# Altium schematic symbol library NXP Semiconductors Sensors.SchLib: 94 symbols (part 4 of 4)
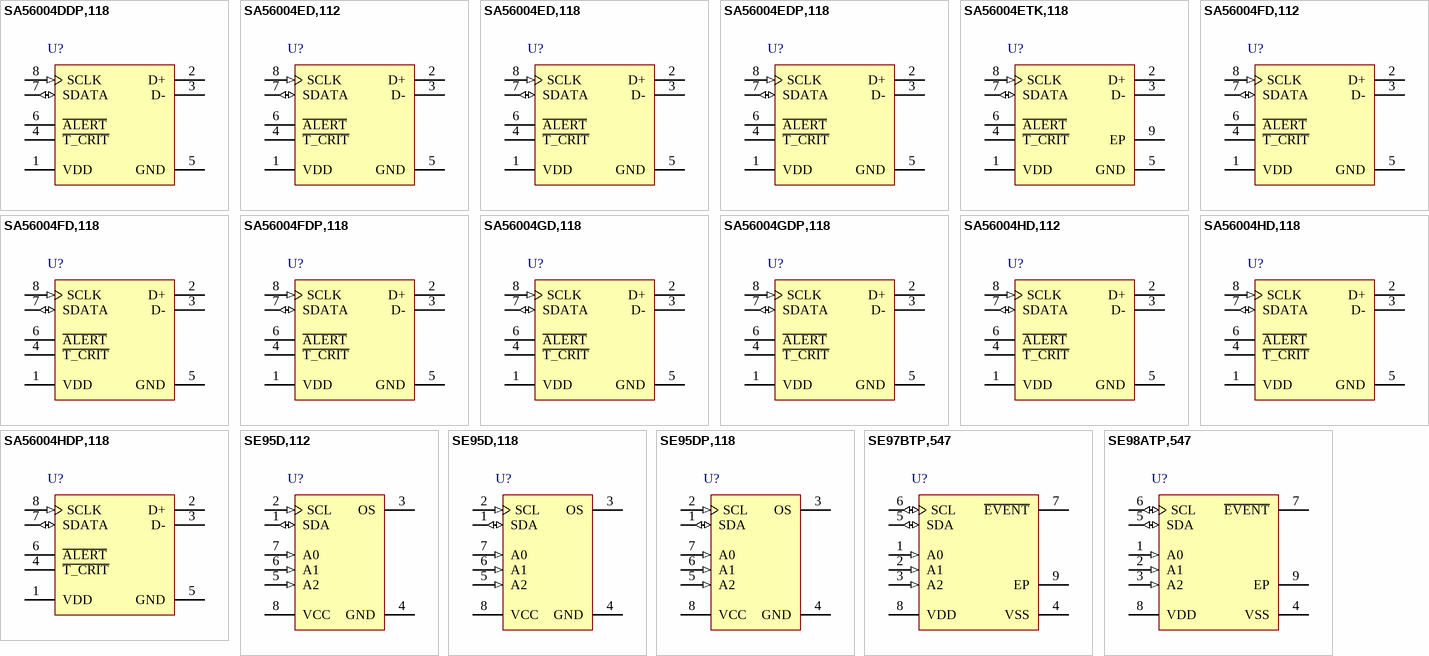
[diagram p5: symbols SA56004DDP,118 to SE98ATP,547]

## SA56004HD,112
designator U?
SMBus-Compatible, Remote / Local Digital Temperature Sensor with Overtemperature Alarms, 3.0 to 5.5 V Supply, -40 to 125 degC, 8-Pin SOT96-1, RoHS, Tube, Bulk; Manufacturer: NXP Semiconductors; PartNumber: SA56004HD,112; Accuracy on-chip (degC): 2@60 to 100 / 3@-40 to 125; Accuracy remote (degC): 1@60 to 100 / 3@-40 to 125; Assignable addresses: 1; SMBus clock (kHz): 400; Standby current (uA): 10; Code_IEC: 76000; DatasheetVersion: Rev. 7; PackageVersion: 03-02-18, 02/2003; PackageReference: SOT96-1; PackageDescription: 8-Pin Plastic Small Outline Package, Body 4.9 x 3.9 mm, Pitch 1.27 mm; Supplier 1: Digi-Key; Supplier Part Number 1: 568-3343-5-ND; Supplier 2: Newark; Supplier Part Number 2: 70R8715; Supplier 3: Mouser; Supplier Part Number 3: 771-SA56004HD112; Operating Voltage (VDC): 3.0 to 5.5; Packing: Tube, Bulk; Mounting Technology: Surface Mount; Code_JEDEC: MS-012; ComponentLink1Description: Manufacturer URL; ComponentLink1URL: http://www.nxp.com/; ComponentLink2Description: Datasheet; ComponentLink2URL: http://www.nxp.com/documents/data_sheet/SA56004X.pdf; ComponentLink3Description: Package Specification; ComponentLink3URL: http://www.nxp.com/documents/outline_drawing/sot096-1_po.pdf
footprint NXP-SOT96-1_N (SOIC, 8-Leads, Body 5x4mm, Pitch 1.27mm, IPC Medium Density)
footprint NXP-SOT96-1_L (SOIC, 8-Leads, Body 5x4mm, Pitch 1.27mm, IPC High Density)
footprint NXP-SOT96-1_M (SOIC, 8-Leads, Body 5x4mm, Pitch 1.27mm, IPC Low Density)
pins: 1 VDD (power) "Positive supply voltage. DC voltage from 3.0 V to 5.5 V.", 2 D+ "Diode current source (anode).", 3 D- "Diode sink current (cathode).", 4 ~{T_CRIT} (oc) "T\_\C\R\I\T\ alarm is open-drain, active LOW output which requires an external pull-up resistor. It functions as a system interrupt or power shutdown.", 5 GND (power) "Power supply ground.", 6 ~{ALERT} (oc) "A\L\E\R\T\ alarm is an open-drain, active LOW output which requires an external pull-up resistor. It functions as an interrupt indicating that the temperature of the on-chip or remote diode is above or below programmed (See Datasheet)", 7 SDATA (io) "SMBus/I2C-bus bidirectional data line. This is an open-drain output which requires an external pull-up resistor.", 8 SCLK (in) "SMBus/I2C-bus clock input which requires an external pull-up resistor."

## SA56004HD,118
designator U?
SMBus-Compatible, Remote / Local Digital Temperature Sensor with Overtemperature Alarms, 3.0 to 5.5 V Supply, -40 to 125 degC, 8-Pin SOT96-1, RoHS, Reel; Manufacturer: NXP Semiconductors; PartNumber: SA56004HD,118; Accuracy on-chip (degC): 2@60 to 100 / 3@-40 to 125; Accuracy remote (degC): 1@60 to 100 / 3@-40 to 125; Assignable addresses: 1; SMBus clock (kHz): 400; Standby current (uA): 10; Code_IEC: 76000; DatasheetVersion: Rev. 7; PackageVersion: 03-02-18, 02/2003; PackageReference: SOT96-1; PackageDescription: 8-Pin Plastic Small Outline Package, Body 4.9 x 3.9 mm, Pitch 1.27 mm; Supplier 1: Digi-Key; Supplier Part Number 1: SA56004HD,118-ND; Supplier 2: Mouser; Supplier Part Number 2: 771-SA56004HD118; Operating Voltage (VDC): 3.0 to 5.5; Packing: Reel; Mounting Technology: Surface Mount; Code_JEDEC: MS-012; ComponentLink1Description: Manufacturer URL; ComponentLink1URL: http://www.nxp.com/; ComponentLink2Description: Datasheet; ComponentLink2URL: http://www.nxp.com/documents/data_sheet/SA56004X.pdf; ComponentLink3Description: Package Specification; ComponentLink3URL: http://www.nxp.com/documents/outline_drawing/sot096-1_po.pdf
footprint NXP-SOT96-1_N (SOIC, 8-Leads, Body 5x4mm, Pitch 1.27mm, IPC Medium Density)
footprint NXP-SOT96-1_L (SOIC, 8-Leads, Body 5x4mm, Pitch 1.27mm, IPC High Density)
footprint NXP-SOT96-1_M (SOIC, 8-Leads, Body 5x4mm, Pitch 1.27mm, IPC Low Density)
pins: 1 VDD (power) "Positive supply voltage. DC voltage from 3.0 V to 5.5 V.", 2 D+ "Diode current source (anode).", 3 D- "Diode sink current (cathode).", 4 ~{T_CRIT} (oc) "T\_\C\R\I\T\ alarm is open-drain, active LOW output which requires an external pull-up resistor. It functions as a system interrupt or power shutdown.", 5 GND (power) "Power supply ground.", 6 ~{ALERT} (oc) "A\L\E\R\T\ alarm is an open-drain, active LOW output which requires an external pull-up resistor. It functions as an interrupt indicating that the temperature of the on-chip or remote diode is above or below programmed (See Datasheet)", 7 SDATA (io) "SMBus/I2C-bus bidirectional data line. This is an open-drain output which requires an external pull-up resistor.", 8 SCLK (in) "SMBus/I2C-bus clock input which requires an external pull-up resistor."

## SA56004HDP,118
designator U?
SMBus-Compatible, Remote / Local Digital Temperature Sensor with Overtemperature Alarms, 3.0 to 5.5 V Supply, -40 to 125 degC, 8-Pin SOT505-1, RoHS, Reel; Manufacturer: NXP Semiconductors; PartNumber: SA56004HDP,118; Accuracy on-chip (degC): 2@60 to 100 / 3@-40 to 125; Accuracy remote (degC): 1@60 to 100 / 3@-40 to 125; Assignable addresses: 1; SMBus clock (kHz): 400; Standby current (uA): 10; DatasheetVersion: Rev. 7; PackageVersion: 03-02-18, 02/2003; PackageReference: SOT505-1; PackageDescription: 8-Pin Plastic Thin Shrink Small Outline Package, Body 3 x 3 mm, Pitch 0.65 mm; Supplier 1: Digi-Key; Supplier Part Number 1: 568-3344-2-ND; Supplier 2: Digi-Key; Supplier Part Number 2: 568-3344-1-ND; Supplier 3: Digi-Key; Supplier Part Number 3: 568-3344-6-ND; Supplier 4: Mouser; Supplier Part Number 4: 771-SA56004HDP118; Operating Voltage (VDC): 3.0 to 5.5; Packing: Reel; Mounting Technology: Surface Mount; ComponentLink1Description: Manufacturer URL; ComponentLink1URL: http://www.nxp.com/; ComponentLink2Description: Datasheet; ComponentLink2URL: http://www.nxp.com/documents/data_sheet/SA56004X.pdf; ComponentLink3Description: Package Specification; ComponentLink3URL: http://www.nxp.com/documents/outline_drawing/sot505-1_po.pdf
footprint NXP-SOT505-1_N (TSOP, 8-Leads, Body 3.1x3.1mm, Pitch 0.65mm, IPC Medium Density)
footprint NXP-SOT505-1_L (TSOP, 8-Leads, Body 3.1x3.1mm, Pitch 0.65mm, IPC High Density)
footprint NXP-SOT505-1_M (TSOP, 8-Leads, Body 3.1x3.1mm, Pitch 0.65mm, IPC Low Density)
pins: 1 VDD (power) "Positive supply voltage. DC voltage from 3.0 V to 5.5 V.", 2 D+ "Diode current source (anode).", 3 D- "Diode sink current (cathode).", 4 ~{T_CRIT} (oc) "T\_\C\R\I\T\ alarm is open-drain, active LOW output which requires an external pull-up resistor. It functions as a system interrupt or power shutdown.", 5 GND (power) "Power supply ground.", 6 ~{ALERT} (oc) "A\L\E\R\T\ alarm is an open-drain, active LOW output which requires an external pull-up resistor. It functions as an interrupt indicating that the temperature of the on-chip or remote diode is above or below programmed (See Datasheet)", 7 SDATA (io) "SMBus/I2C-bus bidirectional data line. This is an open-drain output which requires an external pull-up resistor.", 8 SCLK (in) "SMBus/I2C-bus clock input which requires an external pull-up resistor."

## SE95D,112
designator U?
Ultra High Accuracy Digital Temperature Sensor and Thermal Watchdog, 2.8 to 5.5 V Supply, -55 to 125 degC, 8-Pin SOT96-1, RoHS, Bulk; Manufacturer: NXP Semiconductors; PartNumber: SE95D,112; Accuracy on-chip (degC): 1@-25 to 100 / 2@-55 to 125; Assignable addresses: 8; SMBus clock (kHz): 400; Code_IEC: 76000; DatasheetVersion: Rev. 07; PackageVersion: 03-02-18, 02/2003; PackageReference: SOT96-1; PackageDescription: 8-Pin Plastic Small Outline Package, Body 4.9 x 3.9 mm, Pitch 1.27 mm; Supplier 1: Digi-Key; Supplier Part Number 1: SE95D,112-ND; Supplier 2: Newark; Supplier Part Number 2: 61X9979; Supplier 3: Mouser; Supplier Part Number 3: 771-SE95D112; Operating Voltage (VDC): 2.8 to 5.5; Packing: Bulk; Mounting Technology: Surface Mount; Code_JEDEC: MS-012; ComponentLink1Description: Manufacturer URL; ComponentLink1URL: http://www.nxp.com/; ComponentLink2Description: Datasheet; ComponentLink2URL: http://www.nxp.com/documents/data_sheet/SE95.pdf; ComponentLink3Description: Package Specification; ComponentLink3URL: http://www.nxp.com/documents/outline_drawing/sot096-1_po.pdf
footprint NXP-SOT96-1_N (SOIC, 8-Leads, Body 5x4mm, Pitch 1.27mm, IPC Medium Density)
footprint NXP-SOT96-1_L (SOIC, 8-Leads, Body 5x4mm, Pitch 1.27mm, IPC High Density)
footprint NXP-SOT96-1_M (SOIC, 8-Leads, Body 5x4mm, Pitch 1.27mm, IPC Low Density)
pins: 1 SDA (io) "Digital I/O. I2C-bus serial bidirectional data line; open-drain.", 2 SCL (in) "Digital input. I2C-bus serial clock input.", 3 OS (oc) "Overtemp Shutdown output; open-drain.", 4 GND (power) "Ground. To be connected to the system ground.", 5 A2 (in) "Digital input. User-defined address bit 2.", 6 A1 (in) "Digital input. User-defined address bit 1.", 7 A0 (in) "Digital input. User-defined address bit 0.", 8 VCC (power) "Power supply."

## SE95D,118
designator U?
Ultra High Accuracy Digital Temperature Sensor and Thermal Watchdog, 2.8 to 5.5 V Supply, -55 to 125 degC, 8-Pin SOT96-1, RoHS, Reel; Manufacturer: NXP Semiconductors; PartNumber: SE95D,118; Accuracy on-chip (degC): 1@-25 to 100 / 2@-55 to 125; Assignable addresses: 8; SMBus clock (kHz): 400; Code_IEC: 76000; DatasheetVersion: Rev. 07; PackageVersion: 03-02-18, 02/2003; PackageReference: SOT96-1; PackageDescription: 8-Pin Plastic Small Outline Package, Body 4.9 x 3.9 mm, Pitch 1.27 mm; Supplier 1: Digi-Key; Supplier Part Number 1: 568-8721-2-ND; Supplier 2: Digi-Key; Supplier Part Number 2: 568-8721-1-ND; Supplier 3: Digi-Key; Supplier Part Number 3: 568-8721-6-ND; Supplier 4: Newark; Supplier Part Number 4: 70R9084; Supplier 5: Mouser; Supplier Part Number 5: 771-SE95D118; Operating Voltage (VDC): 2.8 to 5.5; Packing: Reel; Mounting Technology: Surface Mount; Code_JEDEC: MS-012; ComponentLink1Description: Manufacturer URL; ComponentLink1URL: http://www.nxp.com/; ComponentLink2Description: Datasheet; ComponentLink2URL: http://www.nxp.com/documents/data_sheet/SE95.pdf; ComponentLink3Description: Package Specification; ComponentLink3URL: http://www.nxp.com/documents/outline_drawing/sot096-1_po.pdf
footprint NXP-SOT96-1_N (SOIC, 8-Leads, Body 5x4mm, Pitch 1.27mm, IPC Medium Density)
footprint NXP-SOT96-1_L (SOIC, 8-Leads, Body 5x4mm, Pitch 1.27mm, IPC High Density)
footprint NXP-SOT96-1_M (SOIC, 8-Leads, Body 5x4mm, Pitch 1.27mm, IPC Low Density)
pins: 1 SDA (io) "Digital I/O. I2C-bus serial bidirectional data line; open-drain.", 2 SCL (in) "Digital input. I2C-bus serial clock input.", 3 OS (oc) "Overtemp Shutdown output; open-drain.", 4 GND (power) "Ground. To be connected to the system ground.", 5 A2 (in) "Digital input. User-defined address bit 2.", 6 A1 (in) "Digital input. User-defined address bit 1.", 7 A0 (in) "Digital input. User-defined address bit 0.", 8 VCC (power) "Power supply."

## SE95DP,118
designator U?
Ultra High Accuracy Digital Temperature Sensor and Thermal Watchdog, 2.8 to 5.5 V Supply, -55 to 125 degC, 8-Pin SOT505-1, RoHS, Reel; Manufacturer: NXP Semiconductors; PartNumber: SE95DP,118; Accuracy on-chip (degC): 1@-25 to 100 / 2@-55 to 125; Assignable addresses: 8; SMBus clock (kHz): 400; DatasheetVersion: Rev. 07; PackageVersion: 03-02-18, 02/2003; PackageReference: SOT505-1; PackageDescription: 8-Pin Plastic Thin Shrink Small Outline Package, Body 3 x 3 mm, Pitch 0.65 mm; Supplier 1: Digi-Key; Supplier Part Number 1: 568-2051-2-ND; Supplier 2: Digi-Key; Supplier Part Number 2: 568-2051-1-ND; Supplier 3: Digi-Key; Supplier Part Number 3: 568-2051-6-ND; Supplier 4: Newark; Supplier Part Number 4: 29T3857; Supplier 5: Newark; Supplier Part Number 5: 70R9085; Supplier 6: Mouser; Supplier Part Number 6: 771-SE95DP-T; Operating Voltage (VDC): 2.8 to 5.5; Packing: Reel; Mounting Technology: Surface Mount; ComponentLink1Description: Manufacturer URL; ComponentLink1URL: http://www.nxp.com/; ComponentLink2Description: Datasheet; ComponentLink2URL: http://www.nxp.com/documents/data_sheet/SE95.pdf; ComponentLink3Description: Package Specification; ComponentLink3URL: http://www.nxp.com/documents/outline_drawing/sot505-1_po.pdf
footprint NXP-SOT505-1_N (TSOP, 8-Leads, Body 3.1x3.1mm, Pitch 0.65mm, IPC Medium Density)
footprint NXP-SOT505-1_L (TSOP, 8-Leads, Body 3.1x3.1mm, Pitch 0.65mm, IPC High Density)
footprint NXP-SOT505-1_M (TSOP, 8-Leads, Body 3.1x3.1mm, Pitch 0.65mm, IPC Low Density)
pins: 1 SDA (io) "Digital I/O. I2C-bus serial bidirectional data line; open-drain.", 2 SCL (in) "Digital input. I2C-bus serial clock input.", 3 OS (oc) "Overtemp Shutdown output; open-drain.", 4 GND (power) "Ground. To be connected to the system ground.", 5 A2 (in) "Digital input. User-defined address bit 2.", 6 A1 (in) "Digital input. User-defined address bit 1.", 7 A0 (in) "Digital input. User-defined address bit 0.", 8 VCC (power) "Power supply."

## SE97BTP,547
designator U?
DDR Memory Module Temp Sensor with Integrated SPD, 3.0 to 3.6 V Supply, -40 to 125 degC, 8-Pin SOT1069-2, RoHS, Reel; Manufacturer: NXP Semiconductors; PartNumber: SE97BTP,547; Accuracy on-chip (degC): 1@75 to 95 / 2@40 to 125 / 3@-40 to 125; Assignable addresses: 8; SMBus clock (kHz): 400; DatasheetVersion: Rev. 01; PackageVersion: 12-04-18, 04/2012; PackageReference: SOT1069-2; PackageDescription: 8-Pin Plastic Thermal Enhanced Very Very Thin Small Outline Package, No Leads, Body 2 x 3 mm, Pitch 0.5 mm, Thermal Pad 1.5 x 1.5 mm; Supplier 1: Digi-Key; Supplier Part Number 1: 568-5055-2-ND; Supplier 2: Digi-Key; Supplier Part Number 2: 568-5055-1-ND; Supplier 3: Digi-Key; Supplier Part Number 3: 568-5055-6-ND; Supplier 4: Newark; Supplier Part Number 4: 72R6396; Supplier 5: Mouser; Supplier Part Number 5: 771-SE97BTP547; Operating Voltage (VDC): 3.0 to 3.6; Packing: Reel; Mounting Technology: Surface Mount; Code_JEDEC: MO-229; ComponentLink1Description: Manufacturer URL; ComponentLink1URL: http://www.nxp.com/; ComponentLink2Description: Datasheet; ComponentLink2URL: http://www.nxp.com/documents/data_sheet/SE97B.pdf; ComponentLink3Description: Package Specification; ComponentLink3URL: http://www.nxp.com/documents/outline_drawing/sot1069-2_po.pdf
footprint NXP-SOT1069-2_N (PSON, 8-Leads, Body 2.1x3.1mm, Pitch 0.5mm, Thermal Pad 1.5x1.5mm, IPC Medium Density)
footprint NXP-SOT1069-2_L (PSON, 8-Leads, Body 2.1x3.1mm, Pitch 0.5mm, Thermal Pad 1.5x1.5mm, IPC High Density)
footprint NXP-SOT1069-2_M (PSON, 8-Leads, Body 2.1x3.1mm, Pitch 0.5mm, Thermal Pad 1.5x1.5mm, IPC Low Density)
pins: 1 A0 (in), 2 A1 (in) "I2C-bus/SMBus slave address bit 1 with internal pull-down", 3 A2 (in) "I2C-bus/SMBus slave address bit 2 with internal pull-down", 4 VSS (power) "device ground", 5 SDA (io) "SMBus/I2C-bus serial data input/output (open-drain). Must have external pull-up resistor.", 6 SCL (io) "SMBus/I2C-bus serial clock input/output (open-drain). Must have external pull-up resistor.", 7 ~{EVENT} (oc) "Thermal alarm output for high/low and critical temperature limit (open-drain). Must have external pull-up resistor.", 8 VDD (power), 9 EP

## SE98ATP,547
designator U?
DDR Memory Module Temp Sensor, 1.7 to 3.6 V Supply, -40 to 125 degC, 8-Pin SOT1069-2, RoHS, Reel; Manufacturer: NXP Semiconductors; PartNumber: SE98ATP,547; Accuracy on-chip (degC): 1@75 to 95 / 2@40 to 125 / 3@-40 to 125; Assignable addresses: 8; SMBus clock (kHz): 400; Standby current (uA): 5; DatasheetVersion: Rev. 04; PackageVersion: 12-04-18, 04/2012; PackageReference: SOT1069-2; PackageDescription: 8-Pin Plastic Thermal Enhanced Very Very Thin Small Outline Package, No Leads, Body 2 x 3 mm, Pitch 0.5 mm, Thermal Pad 1.5 x 1.5 mm; Supplier 1: Digi-Key; Supplier Part Number 1: 568-4731-2-ND; Supplier 2: Digi-Key; Supplier Part Number 2: 568-4731-1-ND; Supplier 3: Digi-Key; Supplier Part Number 3: 568-4731-6-ND; Supplier 4: Newark; Supplier Part Number 4: 99R3026; Supplier 5: Mouser; Supplier Part Number 5: 771-SE98ATP547; Operating Voltage (VDC): 1.7 to 3.6; Packing: Reel; Mounting Technology: Surface Mount; Code_JEDEC: MO-229; ComponentLink1Description: Manufacturer URL; ComponentLink1URL: http://www.nxp.com/; ComponentLink2Description: Datasheet; ComponentLink2URL: http://www.nxp.com/documents/data_sheet/SE98A.pdf; ComponentLink3Description: Package Specification; ComponentLink3URL: http://www.nxp.com/documents/outline_drawing/sot1069-2_po.pdf
footprint NXP-SOT1069-2_N (PSON, 8-Leads, Body 2.1x3.1mm, Pitch 0.5mm, Thermal Pad 1.5x1.5mm, IPC Medium Density)
footprint NXP-SOT1069-2_L (PSON, 8-Leads, Body 2.1x3.1mm, Pitch 0.5mm, Thermal Pad 1.5x1.5mm, IPC High Density)
footprint NXP-SOT1069-2_M (PSON, 8-Leads, Body 2.1x3.1mm, Pitch 0.5mm, Thermal Pad 1.5x1.5mm, IPC Low Density)
pins: 1 A0 (in), 2 A1 (in) "I2C-bus/SMBus slave address bit 1 with internal pull-down", 3 A2 (in) "I2C-bus/SMBus slave address bit 2 with internal pull-down", 4 VSS (power) "device ground", 5 SDA (io) "SMBus/I2C-bus serial data input/output (open-drain). Must have external pull-up resistor.", 6 SCL (io) "SMBus/I2C-bus serial clock input/output (open-drain). Must have external pull-up resistor.", 7 ~{EVENT} (oc) "Thermal alarm output for high/low and critical temperature limit (open-drain). Must have external pull-up resistor.", 8 VDD (power), 9 EP